# Altium schematic symbol library WR-WTB.SchLib: 242 symbols (part 4 of 5)
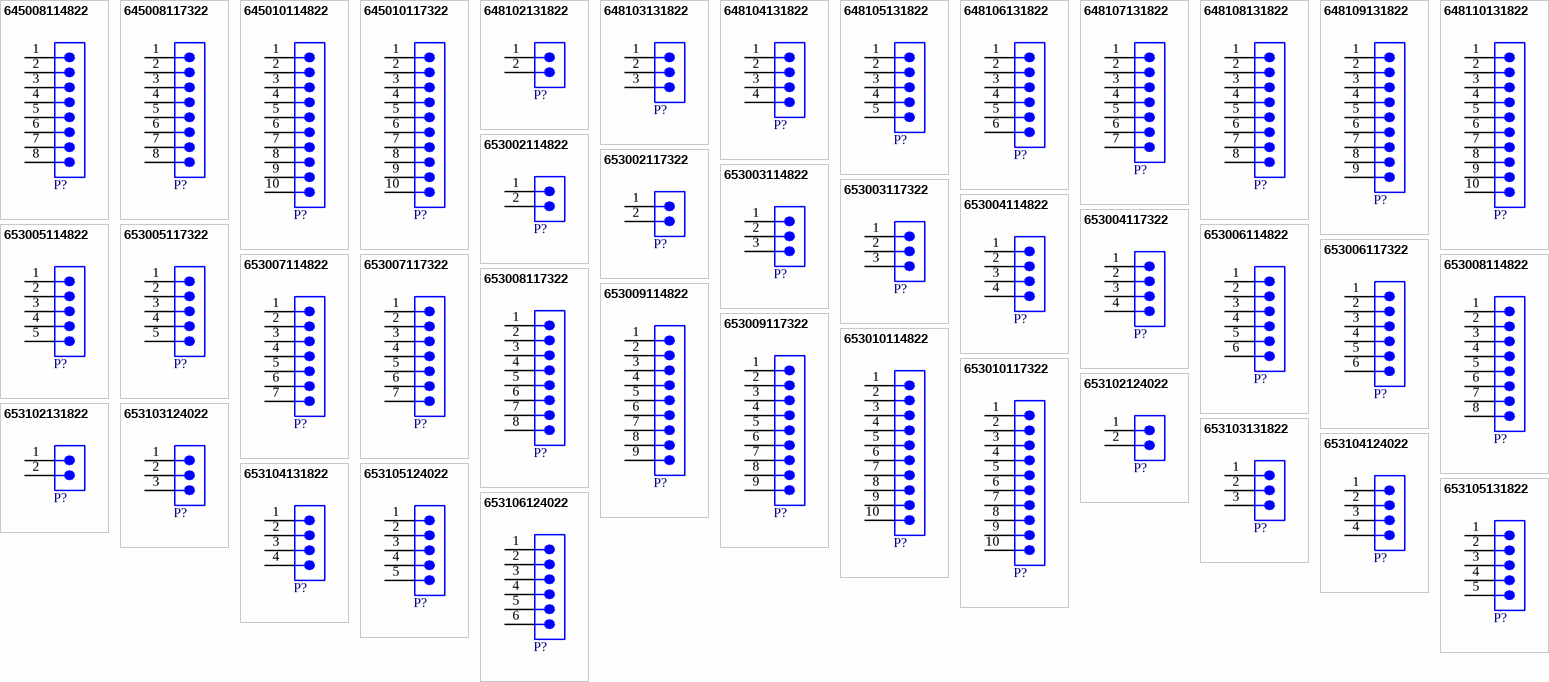
[diagram p9: symbols 645008114822 to 653106124022]

## 648106131822
designator P?  (value not drawn)
WR-WTB SMT Male Horizontal Shrouded Header, pitch 1.5mm, 6pins; Manufacturer: Wurth Elektronik; Contact Resistance: 20mΩ; Rated Current: 1A; Working Voltage: 50VAC; Withstanding Voltage: 500VAC; ComponentLink1Description: Website Link; ComponentLink1URL: https://www.we-online.com/redexpert/article/648106131822?ad; ComponentLink2Description: Datasheet Link; ComponentLink2URL: https://www.we-online.com/redexpert/spec/648106131822?ad; Manufacturer Part Number: 648106131822; Category: Wire-to-Board Connectors; Match Code: WR-WTB; Mount: Surface Mount; Operating Temperature Max: 85°C; Operating Temperature Min: -25°C; Packaging: Tape and Reel; Length: 12mm; Width: 6.47mm; Height: 3.7mm; Gender: Male; Number of Pins: 6; Number of Rows: 1; Orientation: Horizontal; Pitch: 1.5mm
footprint 648106131822
pins: 1, 2, 3, 4, 5, 6

## 648107131822
designator P?  (value not drawn)
WR-WTB SMT Male Horizontal Shrouded Header, pitch 1.5mm, 7pins; Manufacturer: Wurth Elektronik; Contact Resistance: 20mΩ; Rated Current: 1A; Working Voltage: 50VAC; Withstanding Voltage: 500VAC; ComponentLink1Description: Website Link; ComponentLink1URL: https://www.we-online.com/redexpert/article/648107131822?ad; ComponentLink2Description: Datasheet Link; ComponentLink2URL: https://www.we-online.com/redexpert/spec/648107131822?ad; Manufacturer Part Number: 648107131822; Category: Wire-to-Board Connectors; Match Code: WR-WTB; Mount: Surface Mount; Operating Temperature Max: 85°C; Operating Temperature Min: -25°C; Packaging: Tape and Reel; Length: 13.5mm; Width: 6.47mm; Height: 3.7mm; Gender: Male; Number of Pins: 7; Number of Rows: 1; Orientation: Horizontal; Pitch: 1.5mm
footprint 648107131822
pins: 1, 2, 3, 4, 5, 6, 7

## 648108131822
designator P?  (value not drawn)
WR-WTB SMT Male Horizontal Shrouded Header, pitch 1.5mm, 8pins; Manufacturer: Wurth Elektronik; Contact Resistance: 20mΩ; Rated Current: 1A; Working Voltage: 50VAC; Withstanding Voltage: 500VAC; ComponentLink1Description: Website Link; ComponentLink1URL: https://www.we-online.com/redexpert/article/648108131822?ad; ComponentLink2Description: Datasheet Link; ComponentLink2URL: https://www.we-online.com/redexpert/spec/648108131822?ad; Manufacturer Part Number: 648108131822; Category: Wire-to-Board Connectors; Match Code: WR-WTB; Mount: Surface Mount; Operating Temperature Max: 85°C; Operating Temperature Min: -25°C; Packaging: Tape and Reel; Length: 15mm; Width: 6.47mm; Height: 3.7mm; Gender: Male; Number of Pins: 8; Number of Rows: 1; Orientation: Horizontal; Pitch: 1.5mm
footprint 648108131822
pins: 1, 2, 3, 4, 5, 6, 7, 8

## 648109131822
designator P?  (value not drawn)
WR-WTB SMT Male Horizontal Shrouded Header, pitch 1.5mm, 9pins; Manufacturer: Wurth Elektronik; Contact Resistance: 20mΩ; Rated Current: 1A; Working Voltage: 50VAC; Withstanding Voltage: 500VAC; ComponentLink1Description: Website Link; ComponentLink1URL: https://www.we-online.com/redexpert/article/648109131822?ad; ComponentLink2Description: Datasheet Link; ComponentLink2URL: https://www.we-online.com/redexpert/spec/648109131822?ad; Manufacturer Part Number: 648109131822; Category: Wire-to-Board Connectors; Match Code: WR-WTB; Mount: Surface Mount; Operating Temperature Max: 85°C; Operating Temperature Min: -25°C; Packaging: Tape and Reel; Length: 16.5mm; Width: 6.47mm; Height: 3.7mm; Gender: Male; Number of Pins: 9; Number of Rows: 1; Orientation: Horizontal; Pitch: 1.5mm
footprint 648109131822
pins: 1, 2, 3, 4, 5, 6, 7, 8, 9

## 648110131822
designator P?  (value not drawn)
WR-WTB SMT Male Horizontal Shrouded Header, pitch 1.5mm, 10pins; Manufacturer: Wurth Elektronik; Contact Resistance: 20mΩ; Rated Current: 1A; Working Voltage: 50VAC; Withstanding Voltage: 500VAC; ComponentLink1Description: Website Link; ComponentLink1URL: https://www.we-online.com/redexpert/article/648110131822?ad; ComponentLink2Description: Datasheet Link; ComponentLink2URL: https://www.we-online.com/redexpert/spec/648110131822?ad; Manufacturer Part Number: 648110131822; Category: Wire-to-Board Connectors; Match Code: WR-WTB; Mount: Surface Mount; Operating Temperature Max: 85°C; Operating Temperature Min: -25°C; Packaging: Tape and Reel; Length: 18mm; Width: 6.47mm; Height: 3.7mm; Gender: Male; Number of Pins: 10; Number of Rows: 1; Orientation: Horizontal; Pitch: 1.5mm
footprint 648110131822
pins: 1, 2, 3, 4, 5, 6, 7, 8, 9, 10

## 653002114822
designator P?  (value not drawn)
WR-WTB THT Male Vertical Shrouded Header, pitch 1.25mm, 2pins; Manufacturer: Wurth Elektronik; Contact Resistance: 20mΩ; Rated Current: 1A; Working Voltage: 125VAC; Withstanding Voltage: 250VAC; ComponentLink1Description: Website Link; ComponentLink1URL: https://www.we-online.com/redexpert/article/653002114822?ad; ComponentLink2Description: Datasheet Link; ComponentLink2URL: https://www.we-online.com/redexpert/spec/653002114822?ad; Manufacturer Part Number: 653002114822; Category: Wire-to-Board Connectors; Match Code: WR-WTB; Mount: Through Hole; Operating Temperature Max: 85°C; Operating Temperature Min: -40°C; Packaging: Bag; Length: 4.25mm; Width: 3.2mm; Height: 4.2mm; Gender: Male; Number of Pins: 2; Number of Rows: 1; Orientation: Vertical; Pitch: 1.25mm
footprint 653002114822
pins: 1, 2

## 653002117322
designator P?  (value not drawn)
WR-WTB THT Male Horizontal Shrouded Header, pitch 1.25mm, 2pins; Manufacturer: Wurth Elektronik; Contact Resistance: 20mΩ; Rated Current: 1A; Working Voltage: 125VAC; Withstanding Voltage: 250VAC; ComponentLink1Description: Website Link; ComponentLink1URL: https://www.we-online.com/redexpert/article/653002117322?ad; ComponentLink2Description: Datasheet Link; ComponentLink2URL: https://www.we-online.com/redexpert/spec/653002117322?ad; Manufacturer Part Number: 653002117322; Category: Wire-to-Board Connectors; Match Code: WR-WTB; Mount: Through Hole; Operating Temperature Max: 85°C; Operating Temperature Min: -40°C; Packaging: Tube; Length: 4.25mm; Width: 4.7mm; Height: 3.5mm; Gender: Male; Number of Pins: 2; Number of Rows: 1; Orientation: Horizontal; Pitch: 1.25mm
footprint 653002117322
pins: 1, 2

## 653003114822
designator P?  (value not drawn)
WR-WTB THT Male Vertical Shrouded Header, pitch 1.25mm, 3pins; Manufacturer: Wurth Elektronik; Contact Resistance: 20mΩ; Rated Current: 1A; Working Voltage: 125VAC; Withstanding Voltage: 250VAC; ComponentLink1Description: Website Link; ComponentLink1URL: https://www.we-online.com/redexpert/article/653003114822?ad; ComponentLink2Description: Datasheet Link; ComponentLink2URL: https://www.we-online.com/redexpert/spec/653003114822?ad; Manufacturer Part Number: 653003114822; Category: Wire-to-Board Connectors; Match Code: WR-WTB; Mount: Through Hole; Operating Temperature Max: 85°C; Operating Temperature Min: -40°C; Packaging: Bag; Length: 5.5mm; Width: 3.2mm; Height: 4.2mm; Gender: Male; Number of Pins: 3; Number of Rows: 1; Orientation: Vertical; Pitch: 1.25mm
footprint 653003114822
pins: 1, 2, 3

## 653003117322
designator P?  (value not drawn)
WR-WTB THT Male Horizontal Shrouded Header, pitch 1.25mm, 3pins; Manufacturer: Wurth Elektronik; Contact Resistance: 20mΩ; Rated Current: 1A; Working Voltage: 125VAC; Withstanding Voltage: 250VAC; ComponentLink1Description: Website Link; ComponentLink1URL: https://www.we-online.com/redexpert/article/653003117322?ad; ComponentLink2Description: Datasheet Link; ComponentLink2URL: https://www.we-online.com/redexpert/spec/653003117322?ad; Manufacturer Part Number: 653003117322; Category: Wire-to-Board Connectors; Match Code: WR-WTB; Mount: Through Hole; Operating Temperature Max: 85°C; Operating Temperature Min: -40°C; Packaging: Tube; Length: 5.5mm; Width: 4.7mm; Height: 3.5mm; Gender: Male; Number of Pins: 3; Number of Rows: 1; Orientation: Horizontal; Pitch: 1.25mm
footprint 653003117322
pins: 1, 2, 3

## 653004114822
designator P?  (value not drawn)
WR-WTB THT Male Vertical Shrouded Header, pitch 1.25mm, 4pins; Manufacturer: Wurth Elektronik; Contact Resistance: 20mΩ; Rated Current: 1A; Working Voltage: 125VAC; Withstanding Voltage: 250VAC; ComponentLink1Description: Website Link; ComponentLink1URL: https://www.we-online.com/redexpert/article/653004114822?ad; ComponentLink2Description: Datasheet Link; ComponentLink2URL: https://www.we-online.com/redexpert/spec/653004114822?ad; Manufacturer Part Number: 653004114822; Category: Wire-to-Board Connectors; Match Code: WR-WTB; Mount: Through Hole; Operating Temperature Max: 85°C; Operating Temperature Min: -40°C; Packaging: Tube; Length: 6.75mm; Width: 3.2mm; Height: 4.2mm; Gender: Male; Number of Pins: 4; Number of Rows: 1; Orientation: Vertical; Pitch: 1.25mm
footprint 653004114822
pins: 1, 2, 3, 4

## 653004117322
designator P?  (value not drawn)
WR-WTB THT Male Horizontal Shrouded Header, pitch 1.25mm, 4pins; Manufacturer: Wurth Elektronik; Contact Resistance: 20mΩ; Rated Current: 1A; Working Voltage: 125VAC; Withstanding Voltage: 250VAC; ComponentLink1Description: Website Link; ComponentLink1URL: https://www.we-online.com/redexpert/article/653004117322?ad; ComponentLink2Description: Datasheet Link; ComponentLink2URL: https://www.we-online.com/redexpert/spec/653004117322?ad; Manufacturer Part Number: 653004117322; Category: Wire-to-Board Connectors; Match Code: WR-WTB; Mount: Through Hole; Operating Temperature Max: 85°C; Operating Temperature Min: -40°C; Packaging: Tube; Length: 6.75mm; Width: 4.7mm; Height: 3.5mm; Gender: Male; Number of Pins: 4; Number of Rows: 1; Orientation: Horizontal; Pitch: 1.25mm
footprint 653004117322
pins: 1, 2, 3, 4

## 653005114822
designator P?  (value not drawn)
WR-WTB THT Male Vertical Shrouded Header, pitch 1.25mm, 5pins; Manufacturer: Wurth Elektronik; Contact Resistance: 20mΩ; Rated Current: 1A; Working Voltage: 125VAC; Withstanding Voltage: 250VAC; ComponentLink1Description: Website Link; ComponentLink1URL: https://www.we-online.com/redexpert/article/653005114822?ad; ComponentLink2Description: Datasheet Link; ComponentLink2URL: https://www.we-online.com/redexpert/spec/653005114822?ad; Manufacturer Part Number: 653005114822; Category: Wire-to-Board Connectors; Match Code: WR-WTB; Mount: Through Hole; Operating Temperature Max: 85°C; Operating Temperature Min: -40°C; Packaging: Tube; Length: 8mm; Width: 3.2mm; Height: 4.2mm; Gender: Male; Number of Pins: 5; Number of Rows: 1; Orientation: Vertical; Pitch: 1.25mm
footprint 653005114822
pins: 1, 2, 3, 4, 5

## 653005117322
designator P?  (value not drawn)
WR-WTB THT Male Horizontal Shrouded Header, pitch 1.25mm, 5pins; Manufacturer: Wurth Elektronik; Contact Resistance: 20mΩ; Rated Current: 1A; Working Voltage: 125VAC; Withstanding Voltage: 250VAC; ComponentLink1Description: Website Link; ComponentLink1URL: https://www.we-online.com/redexpert/article/653005117322?ad; ComponentLink2Description: Datasheet Link; ComponentLink2URL: https://www.we-online.com/redexpert/spec/653005117322?ad; Manufacturer Part Number: 653005117322; Category: Wire-to-Board Connectors; Match Code: WR-WTB; Mount: Through Hole; Operating Temperature Max: 85°C; Operating Temperature Min: -40°C; Packaging: Tube; Length: 8mm; Width: 4.7mm; Height: 3.5mm; Gender: Male; Number of Pins: 5; Number of Rows: 1; Orientation: Horizontal; Pitch: 1.25mm
footprint 653005117322
pins: 1, 2, 3, 4, 5

## 653006114822
designator P?  (value not drawn)
WR-WTB THT Male Vertical Shrouded Header, pitch 1.25mm, 6pins; Manufacturer: Wurth Elektronik; Contact Resistance: 20mΩ; Rated Current: 1A; Working Voltage: 125VAC; Withstanding Voltage: 250VAC; ComponentLink1Description: Website Link; ComponentLink1URL: https://www.we-online.com/redexpert/article/653006114822?ad; ComponentLink2Description: Datasheet Link; ComponentLink2URL: https://www.we-online.com/redexpert/spec/653006114822?ad; Manufacturer Part Number: 653006114822; Category: Wire-to-Board Connectors; Match Code: WR-WTB; Mount: Through Hole; Operating Temperature Max: 85°C; Operating Temperature Min: -40°C; Packaging: Tube; Length: 9.25mm; Width: 3.2mm; Height: 4.2mm; Gender: Male; Number of Pins: 6; Number of Rows: 1; Orientation: Vertical; Pitch: 1.25mm
footprint 653006114822
pins: 1, 2, 3, 4, 5, 6

## 653006117322
designator P?  (value not drawn)
WR-WTB THT Male Horizontal Shrouded Header, pitch 1.25mm, 6pins; Manufacturer: Wurth Elektronik; Contact Resistance: 20mΩ; Rated Current: 1A; Working Voltage: 125VAC; Withstanding Voltage: 250VAC; ComponentLink1Description: Website Link; ComponentLink1URL: https://www.we-online.com/redexpert/article/653006117322?ad; ComponentLink2Description: Datasheet Link; ComponentLink2URL: https://www.we-online.com/redexpert/spec/653006117322?ad; Manufacturer Part Number: 653006117322; Category: Wire-to-Board Connectors; Match Code: WR-WTB; Mount: Through Hole; Operating Temperature Max: 85°C; Operating Temperature Min: -40°C; Packaging: Tube; Length: 9.25mm; Width: 4.7mm; Height: 3.5mm; Gender: Male; Number of Pins: 6; Number of Rows: 1; Orientation: Horizontal; Pitch: 1.25mm
footprint 653006117322
pins: 1, 2, 3, 4, 5, 6

## 653007114822
designator P?  (value not drawn)
WR-WTB THT Male Vertical Shrouded Header, pitch 1.25mm, 7pins; Manufacturer: Wurth Elektronik; Contact Resistance: 20mΩ; Rated Current: 1A; Working Voltage: 125VAC; Withstanding Voltage: 250VAC; ComponentLink1Description: Website Link; ComponentLink1URL: https://www.we-online.com/redexpert/article/653007114822?ad; ComponentLink2Description: Datasheet Link; ComponentLink2URL: https://www.we-online.com/redexpert/spec/653007114822?ad; Manufacturer Part Number: 653007114822; Category: Wire-to-Board Connectors; Match Code: WR-WTB; Mount: Through Hole; Operating Temperature Max: 85°C; Operating Temperature Min: -40°C; Packaging: Tube; Length: 10.5mm; Width: 3.2mm; Height: 4.2mm; Gender: Male; Number of Pins: 7; Number of Rows: 1; Orientation: Vertical; Pitch: 1.25mm
footprint 653007114822
pins: 1, 2, 3, 4, 5, 6, 7

## 653007117322
designator P?  (value not drawn)
WR-WTB THT Male Horizontal Shrouded Header, pitch 1.25mm, 7pins; Manufacturer: Wurth Elektronik; Contact Resistance: 20mΩ; Rated Current: 1A; Working Voltage: 125VAC; Withstanding Voltage: 250VAC; ComponentLink1Description: Website Link; ComponentLink1URL: https://www.we-online.com/redexpert/article/653007117322?ad; ComponentLink2Description: Datasheet Link; ComponentLink2URL: https://www.we-online.com/redexpert/spec/653007117322?ad; Manufacturer Part Number: 653007117322; Category: Wire-to-Board Connectors; Match Code: WR-WTB; Mount: Through Hole; Operating Temperature Max: 85°C; Operating Temperature Min: -40°C; Packaging: Tube; Length: 10.5mm; Width: 4.7mm; Height: 3.5mm; Gender: Male; Number of Pins: 7; Number of Rows: 1; Orientation: Horizontal; Pitch: 1.25mm
footprint 653007117322
pins: 1, 2, 3, 4, 5, 6, 7

## 653008114822
designator P?  (value not drawn)
WR-WTB THT Male Vertical Shrouded Header, pitch 1.25mm, 8pins; Manufacturer: Wurth Elektronik; Contact Resistance: 20mΩ; Rated Current: 1A; Working Voltage: 125VAC; Withstanding Voltage: 250VAC; ComponentLink1Description: Website Link; ComponentLink1URL: https://www.we-online.com/redexpert/article/653008114822?ad; ComponentLink2Description: Datasheet Link; ComponentLink2URL: https://www.we-online.com/redexpert/spec/653008114822?ad; Manufacturer Part Number: 653008114822; Category: Wire-to-Board Connectors; Match Code: WR-WTB; Mount: Through Hole; Operating Temperature Max: 85°C; Operating Temperature Min: -40°C; Packaging: Tube; Length: 11.75mm; Width: 3.2mm; Height: 4.2mm; Gender: Male; Number of Pins: 8; Number of Rows: 1; Orientation: Vertical; Pitch: 1.25mm
footprint 653008114822
pins: 1, 2, 3, 4, 5, 6, 7, 8

## 653008117322
designator P?  (value not drawn)
WR-WTB THT Male Horizontal Shrouded Header, pitch 1.25mm, 8pins; Manufacturer: Wurth Elektronik; Contact Resistance: 20mΩ; Rated Current: 1A; Working Voltage: 125VAC; Withstanding Voltage: 250VAC; ComponentLink1Description: Website Link; ComponentLink1URL: https://www.we-online.com/redexpert/article/653008117322?ad; ComponentLink2Description: Datasheet Link; ComponentLink2URL: https://www.we-online.com/redexpert/spec/653008117322?ad; Manufacturer Part Number: 653008117322; Category: Wire-to-Board Connectors; Match Code: WR-WTB; Mount: Through Hole; Operating Temperature Max: 85°C; Operating Temperature Min: -40°C; Packaging: Tube; Length: 11.75mm; Width: 4.7mm; Height: 3.5mm; Gender: Male; Number of Pins: 8; Number of Rows: 1; Orientation: Horizontal; Pitch: 1.25mm
footprint 653008117322
pins: 1, 2, 3, 4, 5, 6, 7, 8

## 653009114822
designator P?  (value not drawn)
WR-WTB THT Male Vertical Shrouded Header, pitch 1.25mm, 9pins; Manufacturer: Wurth Elektronik; Contact Resistance: 20mΩ; Rated Current: 1A; Working Voltage: 125VAC; Withstanding Voltage: 250VAC; ComponentLink1Description: Website Link; ComponentLink1URL: https://www.we-online.com/redexpert/article/653009114822?ad; ComponentLink2Description: Datasheet Link; ComponentLink2URL: https://www.we-online.com/redexpert/spec/653009114822?ad; Manufacturer Part Number: 653009114822; Category: Wire-to-Board Connectors; Match Code: WR-WTB; Mount: Through Hole; Operating Temperature Max: 85°C; Operating Temperature Min: -40°C; Packaging: Tube; Length: 13mm; Width: 3.2mm; Height: 4.2mm; Gender: Male; Number of Pins: 9; Number of Rows: 1; Orientation: Vertical; Pitch: 1.25mm
footprint 653009114822
pins: 1, 2, 3, 4, 5, 6, 7, 8, 9

## 653009117322
designator P?  (value not drawn)
WR-WTB THT Male Horizontal Shrouded Header, pitch 1.25mm, 9pins; Manufacturer: Wurth Elektronik; Contact Resistance: 20mΩ; Rated Current: 1A; Working Voltage: 125VAC; Withstanding Voltage: 250VAC; ComponentLink1Description: Website Link; ComponentLink1URL: https://www.we-online.com/redexpert/article/653009117322?ad; ComponentLink2Description: Datasheet Link; ComponentLink2URL: https://www.we-online.com/redexpert/spec/653009117322?ad; Manufacturer Part Number: 653009117322; Category: Wire-to-Board Connectors; Match Code: WR-WTB; Mount: Through Hole; Operating Temperature Max: 85°C; Operating Temperature Min: -40°C; Packaging: Tube; Length: 13mm; Width: 4.7mm; Height: 3.5mm; Gender: Male; Number of Pins: 9; Number of Rows: 1; Orientation: Horizontal; Pitch: 1.25mm
footprint 653009117322
pins: 1, 2, 3, 4, 5, 6, 7, 8, 9

## 653010114822
designator P?  (value not drawn)
WR-WTB THT Male Vertical Shrouded Header, pitch 1.25mm, 10pins; Manufacturer: Wurth Elektronik; Contact Resistance: 20mΩ; Rated Current: 1A; Working Voltage: 125VAC; Withstanding Voltage: 250VAC; ComponentLink1Description: Website Link; ComponentLink1URL: https://www.we-online.com/redexpert/article/653010114822?ad; ComponentLink2Description: Datasheet Link; ComponentLink2URL: https://www.we-online.com/redexpert/spec/653010114822?ad; Manufacturer Part Number: 653010114822; Category: Wire-to-Board Connectors; Match Code: WR-WTB; Mount: Through Hole; Operating Temperature Max: 85°C; Operating Temperature Min: -40°C; Packaging: Tube; Length: 14.25mm; Width: 3.2mm; Height: 4.2mm; Gender: Male; Number of Pins: 10; Number of Rows: 1; Orientation: Vertical; Pitch: 1.25mm
footprint 653010114822
pins: 1, 2, 3, 4, 5, 6, 7, 8, 9, 10

## 653010117322
designator P?  (value not drawn)
WR-WTB THT Male Horizontal Shrouded Header, pitch 1.25mm, 10pins; Manufacturer: Wurth Elektronik; Contact Resistance: 20mΩ; Rated Current: 1A; Working Voltage: 125VAC; Withstanding Voltage: 250VAC; ComponentLink1Description: Website Link; ComponentLink1URL: https://www.we-online.com/redexpert/article/653010117322?ad; ComponentLink2Description: Datasheet Link; ComponentLink2URL: https://www.we-online.com/redexpert/spec/653010117322?ad; Manufacturer Part Number: 653010117322; Category: Wire-to-Board Connectors; Match Code: WR-WTB; Mount: Through Hole; Operating Temperature Max: 85°C; Operating Temperature Min: -40°C; Packaging: Tube; Length: 14.25mm; Width: 4.7mm; Height: 3.5mm; Gender: Male; Number of Pins: 10; Number of Rows: 1; Orientation: Horizontal; Pitch: 1.25mm
footprint 653010117322
pins: 1, 2, 3, 4, 5, 6, 7, 8, 9, 10

## 653102124022
designator P?  (value not drawn)
WR-WTB SMT Male Vertical Shrouded Header, pitch 1.25mm, 2pins; Manufacturer: Wurth Elektronik; Contact Resistance: 20mΩ; Rated Current: 1A; Working Voltage: 125VAC; Withstanding Voltage: 250VAC; ComponentLink1Description: Website Link; ComponentLink1URL: https://www.we-online.com/redexpert/article/653102124022?ad; ComponentLink2Description: Datasheet Link; ComponentLink2URL: https://www.we-online.com/redexpert/spec/653102124022?ad; Manufacturer Part Number: 653102124022; Category: Wire-to-Board Connectors; Match Code: WR-WTB; Mount: Surface Mount; Operating Temperature Max: 85°C; Operating Temperature Min: -40°C; Packaging: Tape and Reel; Length: 7.25mm; Width: 4.2mm; Height: 4.75mm; Gender: Male; Number of Pins: 2; Number of Rows: 1; Orientation: Vertical; Pitch: 1.25mm
footprint 653102124022
pins: 1, 2

## 653102131822
designator P?  (value not drawn)
WR-WTB SMT Male Horizontal Shrouded Header, pitch 1.25mm, 2pins; Manufacturer: Wurth Elektronik; Contact Resistance: 20mΩ; Rated Current: 1A; Working Voltage: 125VAC; Withstanding Voltage: 250VAC; ComponentLink1Description: Website Link; ComponentLink1URL: https://www.we-online.com/redexpert/article/653102131822?ad; ComponentLink2Description: Datasheet Link; ComponentLink2URL: https://www.we-online.com/redexpert/spec/653102131822?ad; Manufacturer Part Number: 653102131822; Category: Wire-to-Board Connectors; Match Code: WR-WTB; Mount: Surface Mount; Operating Temperature Max: 85°C; Operating Temperature Min: -40°C; Packaging: Tape and Reel; Length: 7.25mm; Width: 5.4mm; Height: 3.4mm; Gender: Male; Number of Pins: 2; Number of Rows: 1; Orientation: Horizontal; Pitch: 1.25mm
footprint 653102131822
pins: 1, 2

## 653103124022
designator P?  (value not drawn)
WR-WTB SMT Male Vertical Shrouded Header, pitch 1.25mm, 3pins; Manufacturer: Wurth Elektronik; Contact Resistance: 20mΩ; Rated Current: 1A; Working Voltage: 125VAC; Withstanding Voltage: 250VAC; ComponentLink1Description: Website Link; ComponentLink1URL: https://www.we-online.com/redexpert/article/653103124022?ad; ComponentLink2Description: Datasheet Link; ComponentLink2URL: https://www.we-online.com/redexpert/spec/653103124022?ad; Manufacturer Part Number: 653103124022; Category: Wire-to-Board Connectors; Match Code: WR-WTB; Mount: Surface Mount; Operating Temperature Max: 85°C; Operating Temperature Min: -40°C; Packaging: Tape and Reel; Length: 8.5mm; Width: 4.2mm; Height: 4.75mm; Gender: Male; Number of Pins: 3; Number of Rows: 1; Orientation: Vertical; Pitch: 1.25mm
footprint 653103124022
pins: 1, 2, 3

## 653103131822
designator P?  (value not drawn)
WR-WTB SMT Male Horizontal Shrouded Header, pitch 1.25mm, 3pins; Manufacturer: Wurth Elektronik; Contact Resistance: 20mΩ; Rated Current: 1A; Working Voltage: 125VAC; Withstanding Voltage: 250VAC; ComponentLink1Description: Website Link; ComponentLink1URL: https://www.we-online.com/redexpert/article/653103131822?ad; ComponentLink2Description: Datasheet Link; ComponentLink2URL: https://www.we-online.com/redexpert/spec/653103131822?ad; Manufacturer Part Number: 653103131822; Category: Wire-to-Board Connectors; Match Code: WR-WTB; Mount: Surface Mount; Operating Temperature Max: 85°C; Operating Temperature Min: -40°C; Packaging: Tape and Reel; Length: 8.5mm; Width: 5.4mm; Height: 3.4mm; Gender: Male; Number of Pins: 3; Number of Rows: 1; Orientation: Horizontal; Pitch: 1.25mm
footprint 653103131822
pins: 1, 2, 3

## 653104124022
designator P?  (value not drawn)
WR-WTB SMT Male Vertical Shrouded Header, pitch 1.25mm, 4pins; Manufacturer: Wurth Elektronik; Contact Resistance: 20mΩ; Rated Current: 1A; Working Voltage: 125VAC; Withstanding Voltage: 250VAC; ComponentLink1Description: Website Link; ComponentLink1URL: https://www.we-online.com/redexpert/article/653104124022?ad; ComponentLink2Description: Datasheet Link; ComponentLink2URL: https://www.we-online.com/redexpert/spec/653104124022?ad; Manufacturer Part Number: 653104124022; Category: Wire-to-Board Connectors; Match Code: WR-WTB; Mount: Surface Mount; Operating Temperature Max: 85°C; Operating Temperature Min: -40°C; Packaging: Tape and Reel; Length: 9.75mm; Width: 4.2mm; Height: 4.75mm; Gender: Male; Number of Pins: 4; Number of Rows: 1; Orientation: Vertical; Pitch: 1.25mm
footprint 653104124022
pins: 1, 2, 3, 4

## 653104131822
designator P?  (value not drawn)
WR-WTB SMT Male Horizontal Shrouded Header, pitch 1.25mm, 4pins; Manufacturer: Wurth Elektronik; Contact Resistance: 20mΩ; Rated Current: 1A; Working Voltage: 125VAC; Withstanding Voltage: 250VAC; ComponentLink1Description: Website Link; ComponentLink1URL: https://www.we-online.com/redexpert/article/653104131822?ad; ComponentLink2Description: Datasheet Link; ComponentLink2URL: https://www.we-online.com/redexpert/spec/653104131822?ad; Manufacturer Part Number: 653104131822; Category: Wire-to-Board Connectors; Match Code: WR-WTB; Mount: Surface Mount; Operating Temperature Max: 85°C; Operating Temperature Min: -40°C; Packaging: Tape and Reel; Length: 9.75mm; Width: 5.4mm; Height: 3.4mm; Gender: Male; Number of Pins: 4; Number of Rows: 1; Orientation: Horizontal; Pitch: 1.25mm
footprint 653104131822
pins: 1, 2, 3, 4

## 653105124022
designator P?  (value not drawn)
WR-WTB SMT Male Vertical Shrouded Header, pitch 1.25mm, 5pins; Manufacturer: Wurth Elektronik; Contact Resistance: 20mΩ; Rated Current: 1A; Working Voltage: 125VAC; Withstanding Voltage: 250VAC; ComponentLink1Description: Website Link; ComponentLink1URL: https://www.we-online.com/redexpert/article/653105124022?ad; ComponentLink2Description: Datasheet Link; ComponentLink2URL: https://www.we-online.com/redexpert/spec/653105124022?ad; Manufacturer Part Number: 653105124022; Category: Wire-to-Board Connectors; Match Code: WR-WTB; Mount: Surface Mount; Operating Temperature Max: 85°C; Operating Temperature Min: -40°C; Packaging: Tape and Reel; Length: 11mm; Width: 4.2mm; Height: 4.75mm; Gender: Male; Number of Pins: 5; Number of Rows: 1; Orientation: Vertical; Pitch: 1.25mm
footprint 653105124022
pins: 1, 2, 3, 4, 5

## 653105131822
designator P?  (value not drawn)
WR-WTB SMT Male Horizontal Shrouded Header, pitch 1.25mm, 5pins; Manufacturer: Wurth Elektronik; Contact Resistance: 20mΩ; Rated Current: 1A; Working Voltage: 125VAC; Withstanding Voltage: 250VAC; ComponentLink1Description: Website Link; ComponentLink1URL: https://www.we-online.com/redexpert/article/653105131822?ad; ComponentLink2Description: Datasheet Link; ComponentLink2URL: https://www.we-online.com/redexpert/spec/653105131822?ad; Manufacturer Part Number: 653105131822; Category: Wire-to-Board Connectors; Match Code: WR-WTB; Mount: Surface Mount; Operating Temperature Max: 85°C; Operating Temperature Min: -40°C; Packaging: Tape and Reel; Length: 11mm; Width: 5.4mm; Height: 3.4mm; Gender: Male; Number of Pins: 5; Number of Rows: 1; Orientation: Horizontal; Pitch: 1.25mm
footprint 653105131822
pins: 1, 2, 3, 4, 5

## 653106124022
designator P?  (value not drawn)
WR-WTB SMT Male Vertical Shrouded Header, pitch 1.25mm, 6pins; Manufacturer: Wurth Elektronik; Contact Resistance: 20mΩ; Rated Current: 1A; Working Voltage: 125VAC; Withstanding Voltage: 250VAC; ComponentLink1Description: Website Link; ComponentLink1URL: https://www.we-online.com/redexpert/article/653106124022?ad; ComponentLink2Description: Datasheet Link; ComponentLink2URL: https://www.we-online.com/redexpert/spec/653106124022?ad; Manufacturer Part Number: 653106124022; Category: Wire-to-Board Connectors; Match Code: WR-WTB; Mount: Surface Mount; Operating Temperature Max: 85°C; Operating Temperature Min: -40°C; Packaging: Tape and Reel; Length: 12.25mm; Width: 4.2mm; Height: 4.75mm; Gender: Male; Number of Pins: 6; Number of Rows: 1; Orientation: Vertical; Pitch: 1.25mm
footprint 653106124022
pins: 1, 2, 3, 4, 5, 6

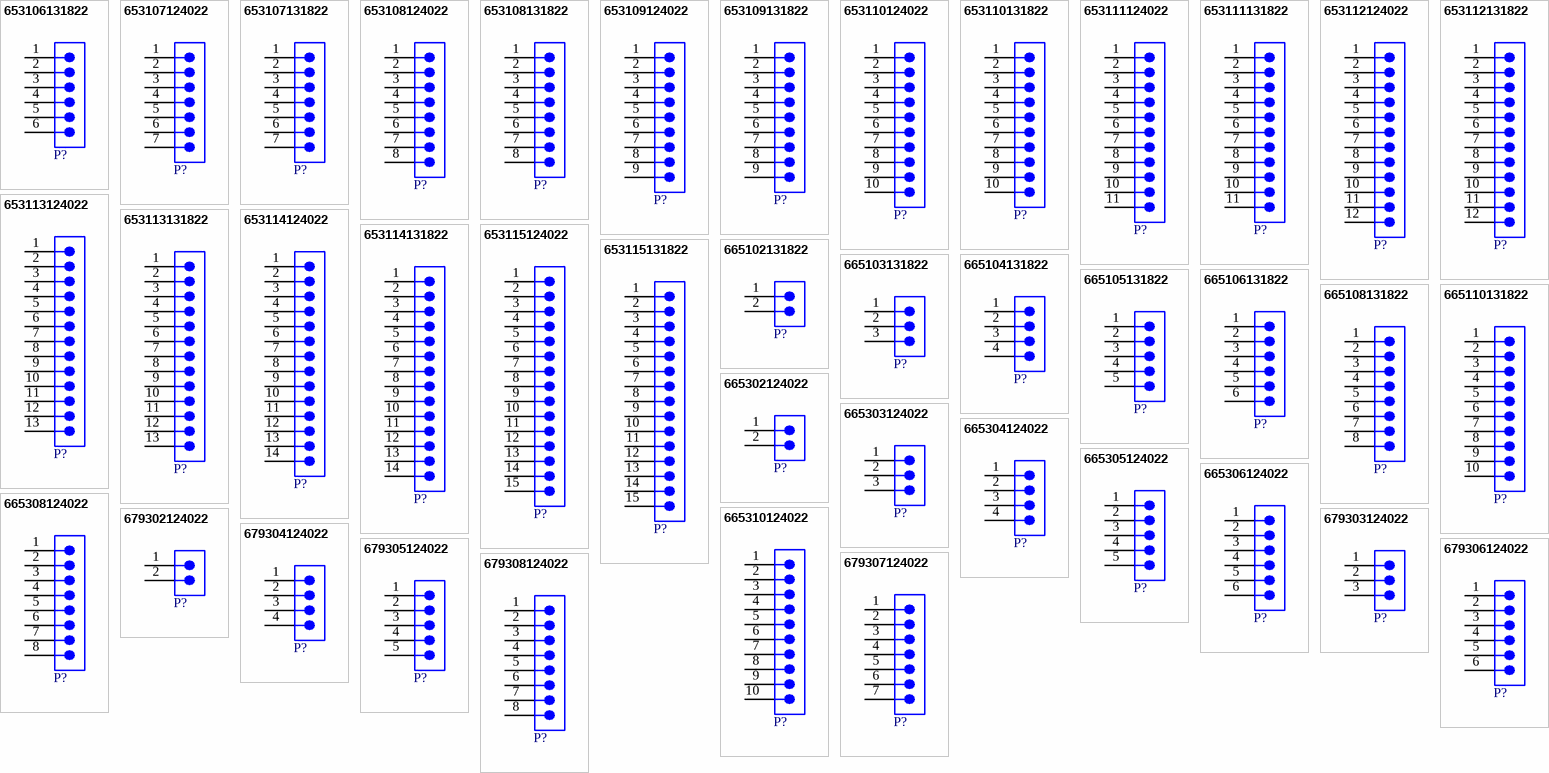
[diagram p5: symbols 653106131822 to 679308124022]

## 653106131822
designator P?  (value not drawn)
WR-WTB SMT Male Horizontal Shrouded Header, pitch 1.25mm, 6pins; Manufacturer: Wurth Elektronik; Contact Resistance: 20mΩ; Rated Current: 1A; Working Voltage: 125VAC; Withstanding Voltage: 250VAC; ComponentLink1Description: Website Link; ComponentLink1URL: https://www.we-online.com/redexpert/article/653106131822?ad; ComponentLink2Description: Datasheet Link; ComponentLink2URL: https://www.we-online.com/redexpert/spec/653106131822?ad; Manufacturer Part Number: 653106131822; Category: Wire-to-Board Connectors; Match Code: WR-WTB; Mount: Surface Mount; Operating Temperature Max: 85°C; Operating Temperature Min: -40°C; Packaging: Tape and Reel; Length: 12.25mm; Width: 5.4mm; Height: 3.4mm; Gender: Male; Number of Pins: 6; Number of Rows: 1; Orientation: Horizontal; Pitch: 1.25mm
footprint 653106131822
pins: 1, 2, 3, 4, 5, 6

## 653107124022
designator P?  (value not drawn)
WR-WTB SMT Male Vertical Shrouded Header, pitch 1.25mm, 7pins; Manufacturer: Wurth Elektronik; Contact Resistance: 20mΩ; Rated Current: 1A; Working Voltage: 125VAC; Withstanding Voltage: 250VAC; ComponentLink1Description: Website Link; ComponentLink1URL: https://www.we-online.com/redexpert/article/653107124022?ad; ComponentLink2Description: Datasheet Link; ComponentLink2URL: https://www.we-online.com/redexpert/spec/653107124022?ad; Manufacturer Part Number: 653107124022; Category: Wire-to-Board Connectors; Match Code: WR-WTB; Mount: Surface Mount; Operating Temperature Max: 85°C; Operating Temperature Min: -40°C; Packaging: Tape and Reel; Length: 13.5mm; Width: 4.2mm; Height: 4.75mm; Gender: Male; Number of Pins: 7; Number of Rows: 1; Orientation: Vertical; Pitch: 1.25mm
footprint 653107124022
pins: 1, 2, 3, 4, 5, 6, 7

## 653107131822
designator P?  (value not drawn)
WR-WTB SMT Male Horizontal Shrouded Header, pitch 1.25mm, 7pins; Manufacturer: Wurth Elektronik; Contact Resistance: 20mΩ; Rated Current: 1A; Working Voltage: 125VAC; Withstanding Voltage: 250VAC; ComponentLink1Description: Website Link; ComponentLink1URL: https://www.we-online.com/redexpert/article/653107131822?ad; ComponentLink2Description: Datasheet Link; ComponentLink2URL: https://www.we-online.com/redexpert/spec/653107131822?ad; Manufacturer Part Number: 653107131822; Category: Wire-to-Board Connectors; Match Code: WR-WTB; Mount: Surface Mount; Operating Temperature Max: 85°C; Operating Temperature Min: -40°C; Packaging: Tape and Reel; Length: 13.5mm; Width: 5.4mm; Height: 3.4mm; Gender: Male; Number of Pins: 7; Number of Rows: 1; Orientation: Horizontal; Pitch: 1.25mm
footprint 653107131822
pins: 1, 2, 3, 4, 5, 6, 7

## 653108124022
designator P?  (value not drawn)
WR-WTB SMT Male Vertical Shrouded Header, pitch 1.25mm, 8pins; Manufacturer: Wurth Elektronik; Contact Resistance: 20mΩ; Rated Current: 1A; Working Voltage: 125VAC; Withstanding Voltage: 250VAC; ComponentLink1Description: Website Link; ComponentLink1URL: https://www.we-online.com/redexpert/article/653108124022?ad; ComponentLink2Description: Datasheet Link; ComponentLink2URL: https://www.we-online.com/redexpert/spec/653108124022?ad; Manufacturer Part Number: 653108124022; Category: Wire-to-Board Connectors; Match Code: WR-WTB; Mount: Surface Mount; Operating Temperature Max: 85°C; Operating Temperature Min: -40°C; Packaging: Tape and Reel; Length: 14.75mm; Width: 4.2mm; Height: 4.75mm; Gender: Male; Number of Pins: 8; Number of Rows: 1; Orientation: Vertical; Pitch: 1.25mm
footprint 653108124022
pins: 1, 2, 3, 4, 5, 6, 7, 8

## 653108131822
designator P?  (value not drawn)
WR-WTB SMT Male Horizontal Shrouded Header, pitch 1.25mm, 8pins; Manufacturer: Wurth Elektronik; Contact Resistance: 20mΩ; Rated Current: 1A; Working Voltage: 125VAC; Withstanding Voltage: 250VAC; ComponentLink1Description: Website Link; ComponentLink1URL: https://www.we-online.com/redexpert/article/653108131822?ad; ComponentLink2Description: Datasheet Link; ComponentLink2URL: https://www.we-online.com/redexpert/spec/653108131822?ad; Manufacturer Part Number: 653108131822; Category: Wire-to-Board Connectors; Match Code: WR-WTB; Mount: Surface Mount; Operating Temperature Max: 85°C; Operating Temperature Min: -40°C; Packaging: Tape and Reel; Length: 14.75mm; Width: 5.4mm; Height: 3.4mm; Gender: Male; Number of Pins: 8; Number of Rows: 1; Orientation: Horizontal; Pitch: 1.25mm
footprint 653108131822
pins: 1, 2, 3, 4, 5, 6, 7, 8

## 653109124022
designator P?  (value not drawn)
WR-WTB SMT Male Vertical Shrouded Header, pitch 1.25mm, 9pins; Manufacturer: Wurth Elektronik; Contact Resistance: 20mΩ; Rated Current: 1A; Working Voltage: 125VAC; Withstanding Voltage: 250VAC; ComponentLink1Description: Website Link; ComponentLink1URL: https://www.we-online.com/redexpert/article/653109124022?ad; ComponentLink2Description: Datasheet Link; ComponentLink2URL: https://www.we-online.com/redexpert/spec/653109124022?ad; Manufacturer Part Number: 653109124022; Category: Wire-to-Board Connectors; Match Code: WR-WTB; Mount: Surface Mount; Operating Temperature Max: 85°C; Operating Temperature Min: -40°C; Packaging: Tape and Reel; Length: 16mm; Width: 4.2mm; Height: 4.75mm; Gender: Male; Number of Pins: 9; Number of Rows: 1; Orientation: Vertical; Pitch: 1.25mm
footprint 653109124022
pins: 1, 2, 3, 4, 5, 6, 7, 8, 9

## 653109131822
designator P?  (value not drawn)
WR-WTB SMT Male Horizontal Shrouded Header, pitch 1.25mm, 9pins; Manufacturer: Wurth Elektronik; Contact Resistance: 20mΩ; Rated Current: 1A; Working Voltage: 125VAC; Withstanding Voltage: 250VAC; ComponentLink1Description: Website Link; ComponentLink1URL: https://www.we-online.com/redexpert/article/653109131822?ad; ComponentLink2Description: Datasheet Link; ComponentLink2URL: https://www.we-online.com/redexpert/spec/653109131822?ad; Manufacturer Part Number: 653109131822; Category: Wire-to-Board Connectors; Match Code: WR-WTB; Mount: Surface Mount; Operating Temperature Max: 85°C; Operating Temperature Min: -40°C; Packaging: Tape and Reel; Length: 16mm; Width: 5.4mm; Height: 3.4mm; Gender: Male; Number of Pins: 9; Number of Rows: 1; Orientation: Horizontal; Pitch: 1.25mm
footprint 653109131822
pins: 1, 2, 3, 4, 5, 6, 7, 8, 9

## 653110124022
designator P?  (value not drawn)
WR-WTB SMT Male Vertical Shrouded Header, pitch 1.25mm, 10pins; Manufacturer: Wurth Elektronik; Contact Resistance: 20mΩ; Rated Current: 1A; Working Voltage: 125VAC; Withstanding Voltage: 250VAC; ComponentLink1Description: Website Link; ComponentLink1URL: https://www.we-online.com/redexpert/article/653110124022?ad; ComponentLink2Description: Datasheet Link; ComponentLink2URL: https://www.we-online.com/redexpert/spec/653110124022?ad; Manufacturer Part Number: 653110124022; Category: Wire-to-Board Connectors; Match Code: WR-WTB; Mount: Surface Mount; Operating Temperature Max: 85°C; Operating Temperature Min: -40°C; Packaging: Tape and Reel; Length: 17.25mm; Width: 4.2mm; Height: 4.75mm; Gender: Male; Number of Pins: 10; Number of Rows: 1; Orientation: Vertical; Pitch: 1.25mm
footprint 653110124022
pins: 1, 2, 3, 4, 5, 6, 7, 8, 9, 10

## 653110131822
designator P?  (value not drawn)
WR-WTB SMT Male Horizontal Shrouded Header, pitch 1.25mm, 10pins; Manufacturer: Wurth Elektronik; Contact Resistance: 20mΩ; Rated Current: 1A; Working Voltage: 125VAC; Withstanding Voltage: 250VAC; ComponentLink1Description: Website Link; ComponentLink1URL: https://www.we-online.com/redexpert/article/653110131822?ad; ComponentLink2Description: Datasheet Link; ComponentLink2URL: https://www.we-online.com/redexpert/spec/653110131822?ad; Manufacturer Part Number: 653110131822; Category: Wire-to-Board Connectors; Match Code: WR-WTB; Mount: Surface Mount; Operating Temperature Max: 85°C; Operating Temperature Min: -40°C; Packaging: Tape and Reel; Length: 17.25mm; Width: 5.4mm; Height: 3.4mm; Gender: Male; Number of Pins: 10; Number of Rows: 1; Orientation: Horizontal; Pitch: 1.25mm
footprint 653110131822
pins: 1, 2, 3, 4, 5, 6, 7, 8, 9, 10

## 653111124022
designator P?  (value not drawn)
WR-WTB SMT Male Vertical Shrouded Header, pitch 1.25mm, 11pins; Manufacturer: Wurth Elektronik; Contact Resistance: 20mΩ; Rated Current: 1A; Working Voltage: 125VAC; Withstanding Voltage: 250VAC; ComponentLink1Description: Website Link; ComponentLink1URL: https://www.we-online.com/redexpert/article/653111124022?ad; ComponentLink2Description: Datasheet Link; ComponentLink2URL: https://www.we-online.com/redexpert/spec/653111124022?ad; Manufacturer Part Number: 653111124022; Category: Wire-to-Board Connectors; Match Code: WR-WTB; Mount: Surface Mount; Operating Temperature Max: 85°C; Operating Temperature Min: -40°C; Packaging: Tape and Reel; Length: 18.5mm; Width: 4.2mm; Height: 4.75mm; Gender: Male; Number of Pins: 11; Number of Rows: 1; Orientation: Vertical; Pitch: 1.25mm
footprint 653111124022
pins: 1, 2, 3, 4, 5, 6, 7, 8, 9, 10, 11

## 653111131822
designator P?  (value not drawn)
WR-WTB SMT Male Horizontal Shrouded Header, pitch 1.25mm, 11pins; Manufacturer: Wurth Elektronik; Contact Resistance: 20mΩ; Rated Current: 1A; Working Voltage: 125VAC; Withstanding Voltage: 250VAC; ComponentLink1Description: Website Link; ComponentLink1URL: https://www.we-online.com/redexpert/article/653111131822?ad; ComponentLink2Description: Datasheet Link; ComponentLink2URL: https://www.we-online.com/redexpert/spec/653111131822?ad; Manufacturer Part Number: 653111131822; Category: Wire-to-Board Connectors; Match Code: WR-WTB; Mount: Surface Mount; Operating Temperature Max: 85°C; Operating Temperature Min: -40°C; Packaging: Tape and Reel; Length: 18.5mm; Width: 5.4mm; Height: 3.4mm; Gender: Male; Number of Pins: 11; Number of Rows: 1; Orientation: Horizontal; Pitch: 1.25mm
footprint 653111131822
pins: 1, 2, 3, 4, 5, 6, 7, 8, 9, 10, 11

## 653112124022
designator P?  (value not drawn)
WR-WTB SMT Male Vertical Shrouded Header, pitch 1.25mm, 12pins; Manufacturer: Wurth Elektronik; Contact Resistance: 20mΩ; Rated Current: 1A; Working Voltage: 125VAC; Withstanding Voltage: 250VAC; ComponentLink1Description: Website Link; ComponentLink1URL: https://www.we-online.com/redexpert/article/653112124022?ad; ComponentLink2Description: Datasheet Link; ComponentLink2URL: https://www.we-online.com/redexpert/spec/653112124022?ad; Manufacturer Part Number: 653112124022; Category: Wire-to-Board Connectors; Match Code: WR-WTB; Mount: Surface Mount; Operating Temperature Max: 85°C; Operating Temperature Min: -40°C; Packaging: Tape and Reel; Length: 19.75mm; Width: 4.2mm; Height: 4.75mm; Gender: Male; Number of Pins: 12; Number of Rows: 1; Orientation: Vertical; Pitch: 1.25mm
footprint 653112124022
pins: 1, 2, 3, 4, 5, 6, 7, 8, 9, 10, 11, 12

## 653112131822
designator P?  (value not drawn)
WR-WTB SMT Male Horizontal Shrouded Header, pitch 1.25mm, 12pins; Manufacturer: Wurth Elektronik; Contact Resistance: 20mΩ; Rated Current: 1A; Working Voltage: 125VAC; Withstanding Voltage: 250VAC; ComponentLink1Description: Website Link; ComponentLink1URL: https://www.we-online.com/redexpert/article/653112131822?ad; ComponentLink2Description: Datasheet Link; ComponentLink2URL: https://www.we-online.com/redexpert/spec/653112131822?ad; Manufacturer Part Number: 653112131822; Category: Wire-to-Board Connectors; Match Code: WR-WTB; Mount: Surface Mount; Operating Temperature Max: 85°C; Operating Temperature Min: -40°C; Packaging: Tape and Reel; Length: 19.75mm; Width: 5.4mm; Height: 3.4mm; Gender: Male; Number of Pins: 12; Number of Rows: 1; Orientation: Horizontal; Pitch: 1.25mm
footprint 653112131822
pins: 1, 2, 3, 4, 5, 6, 7, 8, 9, 10, 11, 12

## 653113124022
designator P?  (value not drawn)
WR-WTB SMT Male Vertical Shrouded Header, pitch 1.25mm, 13pins; Manufacturer: Wurth Elektronik; Contact Resistance: 20mΩ; Rated Current: 1A; Working Voltage: 125VAC; Withstanding Voltage: 250VAC; ComponentLink1Description: Website Link; ComponentLink1URL: https://www.we-online.com/redexpert/article/653113124022?ad; ComponentLink2Description: Datasheet Link; ComponentLink2URL: https://www.we-online.com/redexpert/spec/653113124022?ad; Manufacturer Part Number: 653113124022; Category: Wire-to-Board Connectors; Match Code: WR-WTB; Mount: Surface Mount; Operating Temperature Max: 85°C; Operating Temperature Min: -40°C; Packaging: Tape and Reel; Length: 21mm; Width: 4.2mm; Height: 4.75mm; Gender: Male; Number of Pins: 13; Number of Rows: 1; Orientation: Vertical; Pitch: 1.25mm
footprint 653113124022
pins: 1, 2, 3, 4, 5, 6, 7, 8, 9, 10, 11, 12, 13

## 653113131822
designator P?  (value not drawn)
WR-WTB SMT Male Horizontal Shrouded Header, pitch 1.25mm, 13pins; Manufacturer: Wurth Elektronik; Contact Resistance: 20mΩ; Rated Current: 1A; Working Voltage: 125VAC; Withstanding Voltage: 250VAC; ComponentLink1Description: Website Link; ComponentLink1URL: https://www.we-online.com/redexpert/article/653113131822?ad; ComponentLink2Description: Datasheet Link; ComponentLink2URL: https://www.we-online.com/redexpert/spec/653113131822?ad; Manufacturer Part Number: 653113131822; Category: Wire-to-Board Connectors; Match Code: WR-WTB; Mount: Surface Mount; Operating Temperature Max: 85°C; Operating Temperature Min: -40°C; Packaging: Tape and Reel; Length: 21mm; Width: 5.4mm; Height: 3.4mm; Gender: Male; Number of Pins: 13; Number of Rows: 1; Orientation: Horizontal; Pitch: 1.25mm
footprint 653113131822
pins: 1, 2, 3, 4, 5, 6, 7, 8, 9, 10, 11, 12, 13

## 653114124022
designator P?  (value not drawn)
WR-WTB SMT Male Vertical Shrouded Header, pitch 1.25mm, 14pins; Manufacturer: Wurth Elektronik; Contact Resistance: 20mΩ; Rated Current: 1A; Working Voltage: 125VAC; Withstanding Voltage: 250VAC; ComponentLink1Description: Website Link; ComponentLink1URL: https://www.we-online.com/redexpert/article/653114124022?ad; ComponentLink2Description: Datasheet Link; ComponentLink2URL: https://www.we-online.com/redexpert/spec/653114124022?ad; Manufacturer Part Number: 653114124022; Category: Wire-to-Board Connectors; Match Code: WR-WTB; Mount: Surface Mount; Operating Temperature Max: 85°C; Operating Temperature Min: -40°C; Packaging: Tape and Reel; Length: 22.25mm; Width: 4.2mm; Height: 4.75mm; Gender: Male; Number of Pins: 14; Number of Rows: 1; Orientation: Vertical; Pitch: 1.25mm
footprint 653114124022
pins: 1, 2, 3, 4, 5, 6, 7, 8, 9, 10, 11, 12, 13, 14

## 653114131822
designator P?  (value not drawn)
WR-WTB SMT Male Horizontal Shrouded Header, pitch 1.25mm, 14pins; Manufacturer: Wurth Elektronik; Contact Resistance: 20mΩ; Rated Current: 1A; Working Voltage: 125VAC; Withstanding Voltage: 250VAC; ComponentLink1Description: Website Link; ComponentLink1URL: https://www.we-online.com/redexpert/article/653114131822?ad; ComponentLink2Description: Datasheet Link; ComponentLink2URL: https://www.we-online.com/redexpert/spec/653114131822?ad; Manufacturer Part Number: 653114131822; Category: Wire-to-Board Connectors; Match Code: WR-WTB; Mount: Surface Mount; Operating Temperature Max: 85°C; Operating Temperature Min: -40°C; Packaging: Tape and Reel; Length: 22.25mm; Width: 5.4mm; Height: 3.4mm; Gender: Male; Number of Pins: 14; Number of Rows: 1; Orientation: Horizontal; Pitch: 1.25mm
footprint 653114131822
pins: 1, 2, 3, 4, 5, 6, 7, 8, 9, 10, 11, 12, 13, 14

## 653115124022
designator P?  (value not drawn)
WR-WTB SMT Male Vertical Shrouded Header, pitch 1.25mm, 15pins; Manufacturer: Wurth Elektronik; Contact Resistance: 20mΩ; Rated Current: 1A; Working Voltage: 125VAC; Withstanding Voltage: 250VAC; ComponentLink1Description: Website Link; ComponentLink1URL: https://www.we-online.com/redexpert/article/653115124022?ad; ComponentLink2Description: Datasheet Link; ComponentLink2URL: https://www.we-online.com/redexpert/spec/653115124022?ad; Manufacturer Part Number: 653115124022; Category: Wire-to-Board Connectors; Match Code: WR-WTB; Mount: Surface Mount; Operating Temperature Max: 85°C; Operating Temperature Min: -40°C; Packaging: Tape and Reel; Length: 23.5mm; Width: 4.2mm; Height: 4.75mm; Gender: Male; Number of Pins: 15; Number of Rows: 1; Orientation: Vertical; Pitch: 1.25mm
footprint 653115124022
pins: 1, 2, 3, 4, 5, 6, 7, 8, 9, 10, 11, 12, 13, 14, 15

## 653115131822
designator P?  (value not drawn)
WR-WTB SMT Male Horizontal Shrouded Header, pitch 1.25mm, 15pins; Manufacturer: Wurth Elektronik; Contact Resistance: 20mΩ; Rated Current: 1A; Working Voltage: 125VAC; Withstanding Voltage: 250VAC; ComponentLink1Description: Website Link; ComponentLink1URL: https://www.we-online.com/redexpert/article/653115131822?ad; ComponentLink2Description: Datasheet Link; ComponentLink2URL: https://www.we-online.com/redexpert/spec/653115131822?ad; Manufacturer Part Number: 653115131822; Category: Wire-to-Board Connectors; Match Code: WR-WTB; Mount: Surface Mount; Operating Temperature Max: 85°C; Operating Temperature Min: -40°C; Packaging: Tape and Reel; Length: 23.5mm; Width: 5.4mm; Height: 3.4mm; Gender: Male; Number of Pins: 15; Number of Rows: 1; Orientation: Horizontal; Pitch: 1.25mm
footprint 653115131822
pins: 1, 2, 3, 4, 5, 6, 7, 8, 9, 10, 11, 12, 13, 14, 15

## 665102131822
designator P?  (value not drawn)
WR-WTB SMT Male Horizontal Shrouded Header, pitch 1mm, 2pins; Manufacturer: Wurth Elektronik; Contact Resistance: 20mΩ; Rated Current: 1A; Working Voltage: 50VAC; Withstanding Voltage: 500VAC; ComponentLink1Description: Website Link; ComponentLink1URL: https://www.we-online.com/redexpert/article/665102131822?ad; ComponentLink2Description: Datasheet Link; ComponentLink2URL: https://www.we-online.com/redexpert/spec/665102131822?ad; Manufacturer Part Number: 665102131822; Category: Wire-to-Board Connectors; Match Code: WR-WTB; Mount: Surface Mount; Operating Temperature Max: 85°C; Operating Temperature Min: -25°C; Packaging: Tape and Reel; Length: 4mm; Width: 4.95mm; Height: 2.9mm; Gender: Male; Number of Pins: 2; Number of Rows: 1; Orientation: Horizontal; Pitch: 1mm
footprint 665102131822
pins: 1, 2

## 665103131822
designator P?  (value not drawn)
WR-WTB SMT Male Horizontal Shrouded Header, pitch 1mm, 3pins; Manufacturer: Wurth Elektronik; Contact Resistance: 20mΩ; Rated Current: 1A; Working Voltage: 50VAC; Withstanding Voltage: 500VAC; ComponentLink1Description: Website Link; ComponentLink1URL: https://www.we-online.com/redexpert/article/665103131822?ad; ComponentLink2Description: Datasheet Link; ComponentLink2URL: https://www.we-online.com/redexpert/spec/665103131822?ad; Manufacturer Part Number: 665103131822; Category: Wire-to-Board Connectors; Match Code: WR-WTB; Mount: Surface Mount; Operating Temperature Max: 85°C; Operating Temperature Min: -25°C; Packaging: Tape and Reel; Length: 5mm; Width: 4.95mm; Height: 2.9mm; Gender: Male; Number of Pins: 3; Number of Rows: 1; Orientation: Horizontal; Pitch: 1mm
footprint 665103131822
pins: 1, 2, 3

## 665104131822
designator P?  (value not drawn)
WR-WTB SMT Male Horizontal Shrouded Header, pitch 1mm, 4pins; Manufacturer: Wurth Elektronik; Contact Resistance: 20mΩ; Rated Current: 1A; Working Voltage: 50VAC; Withstanding Voltage: 500VAC; ComponentLink1Description: Website Link; ComponentLink1URL: https://www.we-online.com/redexpert/article/665104131822?ad; ComponentLink2Description: Datasheet Link; ComponentLink2URL: https://www.we-online.com/redexpert/spec/665104131822?ad; Manufacturer Part Number: 665104131822; Category: Wire-to-Board Connectors; Match Code: WR-WTB; Mount: Surface Mount; Operating Temperature Max: 85°C; Operating Temperature Min: -25°C; Packaging: Tape and Reel; Length: 6mm; Width: 4.95mm; Height: 2.9mm; Gender: Male; Number of Pins: 4; Number of Rows: 1; Orientation: Horizontal; Pitch: 1mm
footprint 665104131822
pins: 1, 2, 3, 4

## 665105131822
designator P?  (value not drawn)
WR-WTB SMT Male Horizontal Shrouded Header, pitch 1mm, 5pins; Manufacturer: Wurth Elektronik; Contact Resistance: 20mΩ; Rated Current: 1A; Working Voltage: 50VAC; Withstanding Voltage: 500VAC; ComponentLink1Description: Website Link; ComponentLink1URL: https://www.we-online.com/redexpert/article/665105131822?ad; ComponentLink2Description: Datasheet Link; ComponentLink2URL: https://www.we-online.com/redexpert/spec/665105131822?ad; Manufacturer Part Number: 665105131822; Category: Wire-to-Board Connectors; Match Code: WR-WTB; Mount: Surface Mount; Operating Temperature Max: 85°C; Operating Temperature Min: -25°C; Packaging: Tape and Reel; Length: 7mm; Width: 4.95mm; Height: 2.9mm; Gender: Male; Number of Pins: 5; Number of Rows: 1; Orientation: Horizontal; Pitch: 1mm
footprint 665105131822
pins: 1, 2, 3, 4, 5

## 665106131822
designator P?  (value not drawn)
WR-WTB SMT Male Horizontal Shrouded Header, pitch 1mm, 6pins; Manufacturer: Wurth Elektronik; Contact Resistance: 20mΩ; Rated Current: 1A; Working Voltage: 50VAC; Withstanding Voltage: 500VAC; ComponentLink1Description: Website Link; ComponentLink1URL: https://www.we-online.com/redexpert/article/665106131822?ad; ComponentLink2Description: Datasheet Link; ComponentLink2URL: https://www.we-online.com/redexpert/spec/665106131822?ad; Manufacturer Part Number: 665106131822; Category: Wire-to-Board Connectors; Match Code: WR-WTB; Mount: Surface Mount; Operating Temperature Max: 85°C; Operating Temperature Min: -25°C; Packaging: Tape and Reel; Length: 8mm; Width: 4.95mm; Height: 2.9mm; Gender: Male; Number of Pins: 6; Number of Rows: 1; Orientation: Horizontal; Pitch: 1mm
footprint 665106131822
pins: 1, 2, 3, 4, 5, 6